# Altium schematic symbol library Energy Micro.SchLib: 2 symbols
Pins are listed as number, name and electrical type; pins without a type are passive.

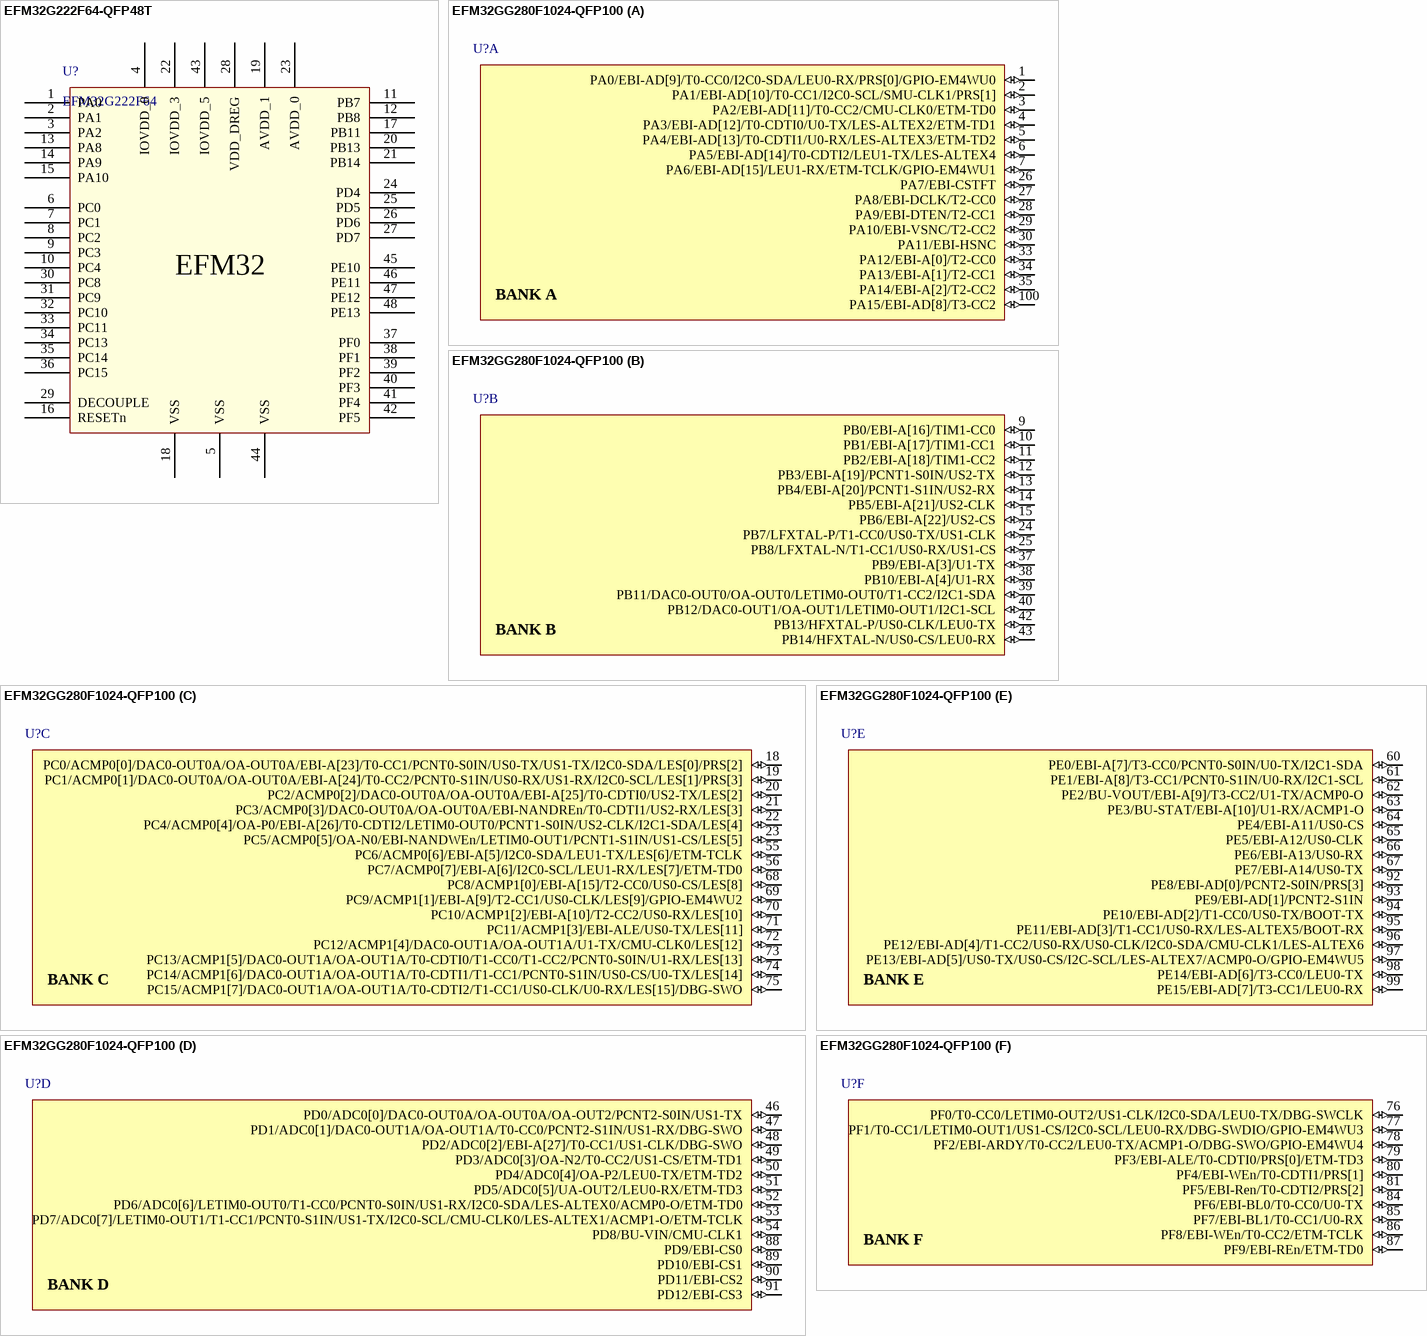
[diagram p0: symbols EFM32G222F64-QFP48T to EFM32GG280F1024-QFP100]

## EFM32G222F64-QFP48T
designator U?, comment EFM32G222F64
IC MCU 32BIT 64KB FLASH 48TQFP; Supplier 1: Digi-Key; Supplier Part Number 1: EFM32G222F64-QFP48T-ND
footprint EM-QFP48 (TSQFP, 48-Leads, Body 7.00x7.00mm, Pitch 0.50mm, IPC Low Density)
pins: 1 PA0, 2 PA1, 3 PA2, 4 IOVDD_0, 5 VSS, 6 PC0, 7 PC1, 8 PC2, 9 PC3, 10 PC4, 11 PB7, 12 PB8, 13 PA8, 14 PA9, 15 PA10, 16 RESETn, 17 PB11, 18 VSS, 19 AVDD_1, 20 PB13, 21 PB14, 22 IOVDD_3, 23 AVDD_0, 24 PD4, 25 PD5, 26 PD6, 27 PD7, 28 VDD_DREG, 29 DECOUPLE, 30 PC8, 31 PC9, 32 PC10, 33 PC11, 34 PC13, 35 PC14, 36 PC15, 37 PF0, 38 PF1, 39 PF2, 40 PF3, 41 PF4, 42 PF5, 43 IOVDD_5, 44 VSS, 45 PE10, 46 PE11, 47 PE12, 48 PE13
text: EFM32

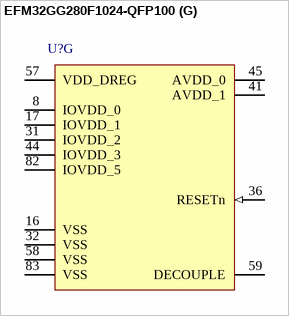
[diagram p1: symbol EFM32GG280F1024-QFP100]

## EFM32GG280F1024-QFP100
designator U?
part A pins: 1 PA0/EBI-AD[9]/T0-CC0/I2C0-SDA/LEU0-RX/PRS[0]/GPIO-EM4WU0 (io) "EBI_AD09#0/1/2, TIM0_CC0#0/1/4, LEU0_RX#4, I2C0_SDA#0, PRS_CH0#0, GPIO_EM4WU0", 2 PA1/EBI-AD[10]/T0-CC1/I2C0-SCL/SMU-CLK1/PRS[1] (io) "EBI_AD10#0/1/2, TIM0_CC1#0/1, I2C0_SCL#0, CMU_CLK1#0, PRS_CH1#0", 3 PA2/EBI-AD[11]/T0-CC2/CMU-CLK0/ETM-TD0 (io) "EBI_AD11#0/1/2, TIM0_CC2#0/1, CMU_CLK0#0, ETM_TD0#3", 4 PA3/EBI-AD[12]/T0-CDTI0/U0-TX/LES-ALTEX2/ETM-TD1 (io) "EBI_AD12#0/1/2, TIM0_CDTI0#0, U0_TX#2, LES_ALTEX2#0, ETM_TD1#3", 5 PA4/EBI-AD[13]/T0-CDTI1/U0-RX/LES-ALTEX3/ETM-TD2 (io) "EBI_AD13#0/1/2, TIM0_CDTI1#0, U0_RX#2, LES_ALTEX3#0, ETM_TD2#3", 6 PA5/EBI-AD[14]/T0-CDTI2/LEU1-TX/LES-ALTEX4 (io) "EBI_AD14#0/1/2, TIM0_CDTI2#0, LEU1_TX#1, LES_ALTEX4#0, ETM_TD3#3", 7 PA6/EBI-AD[15]/LEU1-RX/ETM-TCLK/GPIO-EM4WU1 (io) "EBI_AD15#0/1/2, LEU1_RX#1, ETM_TCLK#3, GPIO_EM4WU1", 26 PA7/EBI-CSTFT (io) "EBI_CSTFT#0/1/2", 27 PA8/EBI-DCLK/T2-CC0 (io) "EBI_DCLK#0/1/2, TIM2_CC0#0", 28 PA9/EBI-DTEN/T2-CC1 (io) "EBI_DTEN#0/1/2, TIM2_CC1#0", 29 PA10/EBI-VSNC/T2-CC2 (io) "EBI_VSNC#0/1/2, TIM2_CC2#0", 30 PA11/EBI-HSNC (io) "EBI_HSNC#0/1/2", 33 PA12/EBI-A[0]/T2-CC0 (io) "EBI_A00#0/1/2, TIM2_CC0#1", 34 PA13/EBI-A[1]/T2-CC1 (io) "EBI_A01#0/1/2, TIM2_CC1#1", 35 PA14/EBI-A[2]/T2-CC2 (io) "EBI_A02#0/1/2, TIM2_CC2#1", 100 PA15/EBI-AD[8]/T3-CC2 (io) "EBI_AD08#0/1/2, TIM3_CC2#0"
part B pins: 9 PB0/EBI-A[16]/TIM1-CC0 (io) "EBI_A16#0/1/2, TIM1_CC0#2", 10 PB1/EBI-A[17]/TIM1-CC1 (io) "EBI_A17#0/1/2, TIM1_CC1#2", 11 PB2/EBI-A[18]/TIM1-CC2 (io) "EBI_A18#0/1/2, TIM1_CC2#2", 12 PB3/EBI-A[19]/PCNT1-S0IN/US2-TX (io) "EBI_A19#0/1/2, PCNT1_S0IN#1, US2_TX#1", 13 PB4/EBI-A[20]/PCNT1-S1IN/US2-RX (io) "EBI_A20#0/1/2, PCNT1_S1IN#1, US2_RX#1", 14 PB5/EBI-A[21]/US2-CLK (io) "EBI_A21#0/1/2, US2_CLK#1", 15 PB6/EBI-A[22]/US2-CS (io) "EBI_A22#0/1/2, US2_CS#1", 24 PB7/LFXTAL-P/T1-CC0/US0-TX/US1-CLK (io) "LFXTAL_P, TIM1_CC0#3, US0_TX#4, US1_CLK#0", 25 PB8/LFXTAL-N/T1-CC1/US0-RX/US1-CS (io) "LFXTAL_N, TIM1_CC1#3, US0_RX#4, US1_CS#0", 37 PB9/EBI-A[3]/U1-TX (io) "EBI_A03#0/1/2, U1_TX#2", 38 PB10/EBI-A[4]/U1-RX (io) "EBI_A04#0/1/2, U1_RX#2", 39 PB11/DAC0-OUT0/OA-OUT0/LETIM0-OUT0/T1-CC2/I2C1-SDA (io) "DAC0_OUT0#0/OPAMP_OUT0, TIM1_CC2#3, LETIM0_OUT0#1, I2C1_SDA#1", 40 PB12/DAC0-OUT1/OA-OUT1/LETIM0-OUT1/I2C1-SCL (io) "DAC0_OUT1#0/OPAMP_OUT1, LETIM0_OUT1#1, I2C1_SCL#1", 42 PB13/HFXTAL-P/US0-CLK/LEU0-TX (io) "HFXTAL_P, US0_CLK#4/5, LEU0_TX#1", 43 PB14/HFXTAL-N/US0-CS/LEU0-RX (io) "HFXTAL_N, US0_CS#4/5, LEU0_RX#1"
part C pins: 18 PC0/ACMP0[0]/DAC0-OUT0A/OA-OUT0A/EBI-A[23]/T0-CC1/PCNT0-S0IN/US0-TX/US1-TX/I2C0-SDA/LES[0]/PRS[2] (io) "DAC0_OUT0ALT#0/OPAMP_OUT0ALT, ACMP0_CH0, EBI_A23#0/1/2, TIM0_CC1#4, PCNT0_S0IN#2, US0_TX#5, US1_TX#0, I2C0_SDA#4, LES_CH0#0, PRS_CH2#0", 19 PC1/ACMP0[1]/DAC0-OUT0A/OA-OUT0A/EBI-A[24]/T0-CC2/PCNT0-S1IN/US0-RX/US1-RX/I2C0-SCL/LES[1]/PRS[3] (io) "DAC0_OUT0ALT#1/OPAMP_OUT0ALT, ACMP0_CH1, EBI_A24#0/1/2, TIM0_CC2#4, PCNT0_S1IN#2, US0_RX#5, US1_RX#0, I2C0_SCL#4, LES_CH1#0, PRS_CH3#0", 20 PC2/ACMP0[2]/DAC0-OUT0A/OA-OUT0A/EBI-A[25]/T0-CDTI0/US2-TX/LES[2] (io) "DAC0_OUT0ALT#2/OPAMP_OUT0ALT, ACMP0_CH2, EBI_A25#0/1/2, TIM0_CDTI0#4, US2_TX#0, LES_CH2#0", 21 PC3/ACMP0[3]/DAC0-OUT0A/OA-OUT0A/EBI-NANDREn/T0-CDTI1/US2-RX/LES[3] (io) "DAC0_OUT0ALT#3/OPAMP_OUT0ALT, ACMP0_CH3, EBI_NANDREn#0/1/2, TIM0_CDTI1#4, US2_RX#0, LES_CH3#0", 22 PC4/ACMP0[4]/OA-P0/EBI-A[26]/T0-CDTI2/LETIM0-OUT0/PCNT1-S0IN/US2-CLK/I2C1-SDA/LES[4] (io) "DAC0_P0#0/OPAMP_P0, ACMP0_CH4, EBI_A26#0/1/2, TIM0_CDTI2#4, LETIM0_OUT0#3, PCNT1_S0IN#0, US2_CLK#0, I2C1_SDA#0, LES_CH4#0", 23 PC5/ACMP0[5]/OA-N0/EBI-NANDWEn/LETIM0-OUT1/PCNT1-S1IN/US1-CS/LES[5] (io) "DAC0_N0#0/OPAMP_N0, ACMP0_CH5, EBI_NANDWEn#0/1/2, LETIM0_OUT1#3, PCNT1_S1IN#0, US2_CS#0, I2C1_SCL#0, LES_CH5#0", 55 PC6/ACMP0[6]/EBI-A[5]/I2C0-SDA/LEU1-TX/LES[6]/ETM-TCLK (io) "ACMP0_CH6, EBI_A05#0/1/2, LEU1_TX#0, I2C0_SDA#2, LES_CH6#0, ETM_TCLK#2", 56 PC7/ACMP0[7]/EBI-A[6]/I2C0-SCL/LEU1-RX/LES[7]/ETM-TD0 (io) "ACMP0_CH7, EBI_A06#0/1/2, LEU1_RX#0, I2C0_SCL#2, LES_CH7#0, ETM_TD0#2", 68 PC8/ACMP1[0]/EBI-A[15]/T2-CC0/US0-CS/LES[8] (io) "ACMP1_CH0, EBI_A15#0/1/2, TIM2_CC0#2, US0_CS#2, LES_CH8#0", 69 PC9/ACMP1[1]/EBI-A[9]/T2-CC1/US0-CLK/LES[9]/GPIO-EM4WU2 (io) "ACMP1_CH1, EBI_A09#1/2, TIM2_CC1#2, US0_CLK#2, LES_CH9#0, GPIO_EM4WU2", 70 PC10/ACMP1[2]/EBI-A[10]/T2-CC2/US0-RX/LES[10] (io) "ACMP1_CH2, EBI_A10#1/2, TIM2_CC2#2, US0_RX#2, LES_CH10#0", 71 PC11/ACMP1[3]/EBI-ALE/US0-TX/LES[11] (io) "ACMP1_CH3, EBI_ALE#1/2, US0_TX#2, LES_CH11#0", 72 PC12/ACMP1[4]/DAC0-OUT1A/OA-OUT1A/U1-TX/CMU-CLK0/LES[12] (io) "DAC0_OUT1ALT#0/OPAMP_OUT1ALT, ACMP1_CH4, U1_TX#0, CMU_CLK0#1, LES_CH12#0", 73 PC13/ACMP1[5]/DAC0-OUT1A/OA-OUT1A/T0-CDTI0/T1-CC0/T1-CC2/PCNT0-S0IN/U1-RX/LES[13] (io) "DAC0_OUT1ALT#1/OPAMP_OUT1ALT, ACMP1_CH5, TIM0_CDTI0#1/3, TIM1_CC0#0, TIM1_CC2#4, PCNT0_S0IN#0, U1_RX#0, LES_CH13#0", 74 PC14/ACMP1[6]/DAC0-OUT1A/OA-OUT1A/T0-CDTI1/T1-CC1/PCNT0-S1IN/US0-CS/U0-TX/LES[14] (io) "DAC0_OUT1ALT#2/OPAMP_OUT1ALT, ACMP1_CH6, TIM0_CDTI1#1/3, TIM1_CC1#0, PCNT0_S1IN#0, US0_CS#3, U0_TX#3, LES_CH14#0", 75 PC15/ACMP1[7]/DAC0-OUT1A/OA-OUT1A/T0-CDTI2/T1-CC1/US0-CLK/U0-RX/LES[15]/DBG-SWO (io) "DAC0_OUT1ALT#3/OPAMP_OUT1ALT, ACMP1_CH7, TIM0_CDTI2#1/3, TIM1_CC2#0, US0_CLK#3, U0_RX#3, LES_CH15#0, DBG_SWO#1"
part D pins: 46 PD0/ADC0[0]/DAC0-OUT0A/OA-OUT0A/OA-OUT2/PCNT2-S0IN/US1-TX (io) "ADC0_CH0, DAC0_OUT0ALT#4/OPAMP_OUT0ALT, DAC0_OUT2#1/OPAMP_OUT2, PCNT2_S0IN#0, US1_TX#1", 47 PD1/ADC0[1]/DAC0-OUT1A/OA-OUT1A/T0-CC0/PCNT2-S1IN/US1-RX/DBG-SWO (io) "ADC0_CH1, DAC0_OUT1ALT#4/OPAMP_OUT1ALT, TIM0_CC0#3, PCNT2_S1IN#0, US1_RX#1, DBG_SWO#2", 48 PD2/ADC0[2]/EBI-A[27]/T0-CC1/US1-CLK/DBG-SWO (io) "ADC0_CH2, EBI_A27#0/1/2, TIM0_CC1#3, US1_CLK#1, DBG_SWO#3", 49 PD3/ADC0[3]/OA-N2/T0-CC2/US1-CS/ETM-TD1 (io) "ADC0_CH3, DAC0_N2#0/OPAMP_N2, TIM0_CC2#3, US1_CS#1, ETM_TD1#0/2", 50 PD4/ADC0[4]/OA-P2/LEU0-TX/ETM-TD2 (io) "ADC0_CH4, DAC0_P2#0/OPAMP_P2, LEU0_TX#0, ETM_TD2#0/2", 51 PD5/ADC0[5]/UA-OUT2/LEU0-RX/ETM-TD3 (io) "ADC0_CH5, DAC0_OUT2#0/OPAMP_OUT2, LEU0_RX#0, ETM_TD3#0/2", 52 PD6/ADC0[6]/LETIM0-OUT0/T1-CC0/PCNT0-S0IN/US1-RX/I2C0-SDA/LES-ALTEX0/ACMP0-O/ETM-TD0 (io) "ADC0_CH6, DAC0_P1#0/OPAMP_P1, TIM1_CC0#4, LETIM0_OUT0#0, PCNT0_S0IN#3, US1_RX#2, I2C0_SDA#1, LES_ALTEX0#0, ACMP0_O#2, ETM_TD0#0", 53 PD7/ADC0[7]/LETIM0-OUT1/T1-CC1/PCNT0-S1IN/US1-TX/I2C0-SCL/CMU-CLK0/LES-ALTEX1/ACMP1-O/ETM-TCLK (io) "ADC0_CH7, DAC0_N1#0/OPAMP_N1, TIM1_CC1#4, LETIM0_OUT1#0, PCNT0_S1IN#3, US1_TX#2, I2C0_SCL#1, CMU_CLK0#2, LES_ALTEX1#0, ACMP1_O#2, ETM_TCLK#0", 54 PD8/BU-VIN/CMU-CLK1 (io) "BU_VIN, CMU_CLK1#1", 88 PD9/EBI-CS0 (io) "EBI_CS0#0/1/2", 89 PD10/EBI-CS1 (io) "EBI_CS1#0/1/2", 90 PD11/EBI-CS2 (io) "EBI_CS2#0/1/2", 91 PD12/EBI-CS3 (io) "EBI_CS3#0/1/2"
part E pins: 60 PE0/EBI-A[7]/T3-CC0/PCNT0-S0IN/U0-TX/I2C1-SDA (io) "EBI_A07#0/1/2, TIM3_CC0#1, PCNT0_S0IN#1, U0_TX#1, I2C1_SDA#2", 61 PE1/EBI-A[8]/T3-CC1/PCNT0-S1IN/U0-RX/I2C1-SCL (io) "EBI_A08#0/1/2, TIM3_CC1#1, PCNT0_S1IN#1, U0_RX#1, I2C1_SCL#2", 62 PE2/BU-VOUT/EBI-A[9]/T3-CC2/U1-TX/ACMP0-O (io) "BU_VOUT, EBI_A09#0, TIM3_CC2#1, U1_TX#3, ACMP0_O#1", 63 PE3/BU-STAT/EBI-A[10]/U1-RX/ACMP1-O (io) "BU_STAT, EBI_A10#0, U1_RX#3, ACMP1_O#1", 64 PE4/EBI-A11/US0-CS (io) "EBI_A11#0/1/2, US0_CS#1", 65 PE5/EBI-A12/US0-CLK (io) "EBI_A12#0/1/2, US0_CLK#1", 66 PE6/EBI-A13/US0-RX (io) "EBI_A13#0/1/2, US0_RX#1", 67 PE7/EBI-A14/US0-TX (io) "EBI_A14#0/1/2, US0_TX#1", 92 PE8/EBI-AD[0]/PCNT2-S0IN/PRS[3] (io) "EBI_AD00#0/1/2, PCNT2_S0IN#1, PRS_CH3#1", 93 PE9/EBI-AD[1]/PCNT2-S1IN (io) "EBI_AD01#0/1/2, PCNT2_S1IN#1", 94 PE10/EBI-AD[2]/T1-CC0/US0-TX/BOOT-TX (io) "EBI_AD02#0/1/2, TIM1_CC0#1, US0_TX#0, BOOTLOADER_TX", 95 PE11/EBI-AD[3]/T1-CC1/US0-RX/LES-ALTEX5/BOOT-RX (io) "EBI_AD03#0/1/2, TIM1_CC1#1, US0_RX#0, LES_ALTEX5#0, BOOTLOADER_RX", 96 PE12/EBI-AD[4]/T1-CC2/US0-RX/US0-CLK/I2C0-SDA/CMU-CLK1/LES-ALTEX6 (io) "EBI_AD04#0/1/2, TIM1_CC2#1, US0_RX#3, US0_CLK#0, I2C0_SDA#6, CMU_CLK1#2, LES_ALTEX6#0", 97 PE13/EBI-AD[5]/US0-TX/US0-CS/I2C-SCL/LES-ALTEX7/ACMP0-O/GPIO-EM4WU5 (io) "EBI_AD05#0/1/2, US0_TX#3, US0_CS#0, I2C0_SCL#6, LES_ALTEX7#0, ACMP0_O#0, GPIO_EM4WU5", 98 PE14/EBI-AD[6]/T3-CC0/LEU0-TX (io) "EBI_AD06#0/1/2, TIM3_CC0#0, LEU0_TX#2", 99 PE15/EBI-AD[7]/T3-CC1/LEU0-RX (io) "EBI_AD07#0/1/2, TIM3_CC1#0, LEU0_RX#2"
part F pins: 76 PF0/T0-CC0/LETIM0-OUT2/US1-CLK/I2C0-SDA/LEU0-TX/DBG-SWCLK (io) "TIM0_CC0#5, LETIM0_OUT0#2, US1_CLK#2, LEU0_TX#3, I2C0_SDA#5, DBG_SWCLK#0/1/2/3", 77 PF1/T0-CC1/LETIM0-OUT1/US1-CS/I2C0-SCL/LEU0-RX/DBG-SWDIO/GPIO-EM4WU3 (io) "TIM0_CC1#5, LETIM0_OUT1#2, US1_CS#2, LEU0_RX#3, I2C0_SCL#5, DBG_SWDIO#0/1/2/3, GPIO_EM4WU3", 78 PF2/EBI-ARDY/T0-CC2/LEU0-TX/ACMP1-O/DBG-SWO/GPIO-EM4WU4 (io) "EBI_ARDY#0/1/2, TIM0_CC2#5, LEU0_TX#4, ACMP1_O#0, DBG_SWO#0, GPIO_EM4WU4", 79 PF3/EBI-ALE/T0-CDTI0/PRS[0]/ETM-TD3 (io) "EBI_ALE#0, TIM0_CDTI0#2/5, PRS_CH0#1, ETM_TD3#1", 80 PF4/EBI-WEn/T0-CDTI1/PRS[1] (io) "EBI_WEn#0/2, TIM0_CDTI1#2/5, PRS_CH1#1", 81 PF5/EBI-Ren/T0-CDTI2/PRS[2] (io) "EBI_REn#0/2, TIM0_CDTI2#2/5, PRS_CH2#1", 84 PF6/EBI-BL0/T0-CC0/U0-TX (io) "EBI_BL0#0/1/2, TIM0_CC0#2, U0_TX#0", 85 PF7/EBI-BL1/T0-CC1/U0-RX (io) "EBI_BL1#0/1/2, TIM0_CC1#2, U0_RX#0", 86 PF8/EBI-WEn/T0-CC2/ETM-TCLK (io) "EBI_WEn#1, TIM0_CC2#2, ETM_TCLK#1", 87 PF9/EBI-REn/ETM-TD0 (io) "EBI_REn#1, ETM_TD0#1"
part G pins: 8 IOVDD_0 (power) "Digital IO power supply 0.", 16 VSS (power) "Ground", 17 IOVDD_1 (power) "Digital IO power supply 1.", 31 IOVDD_2 (power) "Digital IO power supply 2.", 32 VSS (power) "Ground", 36 RESETn (in) "Reset input.Active low, with internal pull-up.", 41 AVDD_1 (power) "Analog power supply 1 .", 44 IOVDD_3 (power) "Digital IO power supply 3.", 45 AVDD_0 (power) "Analog power supply 0.", 57 VDD_DREG (power) "Power supply for on-chip voltage regulator.", 58 VSS (power) "Ground", 59 DECOUPLE "Decouple output for on-chip voltage regulator. An external capacitance of size CDECOUPLE is required at this pin", 82 IOVDD_5 (power) "Digital IO power supply 5.", 83 VSS (power) "Ground"
part A text: BANK A
part B text: BANK B
part C text: BANK C
part D text: BANK D
part E text: BANK E
part F text: BANK F